# Altium footprint library SO-08_WIDE.PcbLib: 1 footprints
Each footprint in its own frame and in the unit in brackets; x right, y up, seen from the top. Pads: shape width x height; smd on the part's side, far side on the other; paste and mask are expansions set on the pad; w line width, h text height; cw(c..) or ccw(c..) is an arc to the next point about the centre after c.
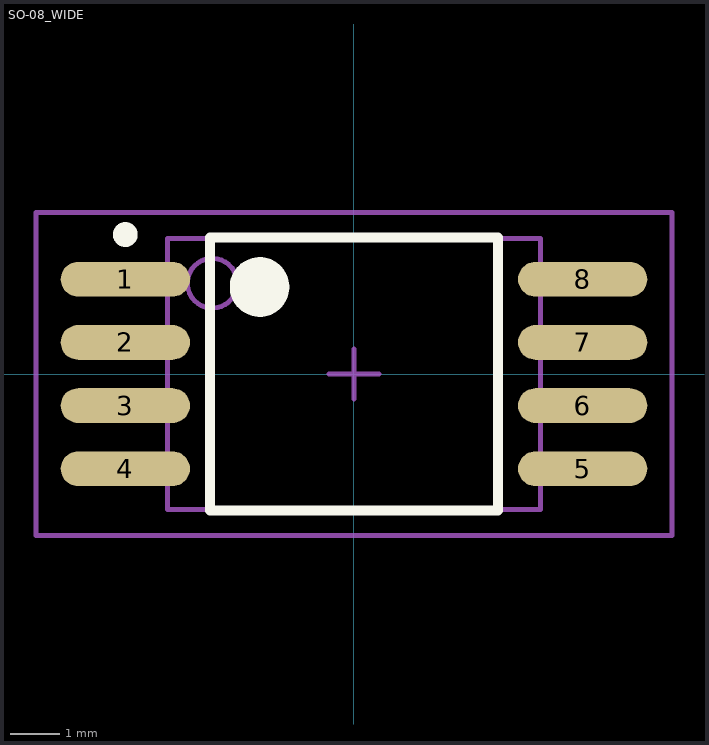
[diagram p0: the footprint, top view; thin cyan lines are the x and y axes]

## SO-08_WIDE [mm] "SOIC, 8-Leads, Body 5.3x7.5mm, Pitch 1.27mm, IPC Low Density"
height 2.65
pads (8):
  oval 2.6x0.7 smd: 1(-4.6,1.905) 2(-4.6,0.635) 3(-4.6,-0.635) 4(-4.6,-1.905) 5(4.6,-1.905) 6(4.6,-0.635) 7(4.6,0.635) 8(4.6,1.905)
Top Overlay:
  circle w0.25: c-4.6,2.805 r0.125
  circle w0.6: c-1.9,1.75 r0.3
  lines w0.2: -2.9,-2.75 -2.9,2.75 2.9,2.75 2.9,-2.75 -2.9,-2.75
Mechanical 13:
  circle w0.1: c-2.85,1.825 r0.5
  lines w0.1: -3.75,-2.725 -3.75,2.725 3.75,2.725 3.75,-2.725 -3.75,-2.725
Mechanical 15:
  lines w0.1: -0.5,0 0.5,0 ; 0,-0.5 0,0.5 ; -6.4,-3.25 -6.4,3.25 6.4,3.25 6.4,-3.25 -6.4,-3.25
3D body: height 2.65, standoff 0, extent -3.75,-2.725 3.75,2.725